# EAGLE library part MPU-6000 (library TiLDA Mk2 Parts)
MPU-6000 - I2C address is 0x68 with AD0 low and 0x69 with AD0 high.
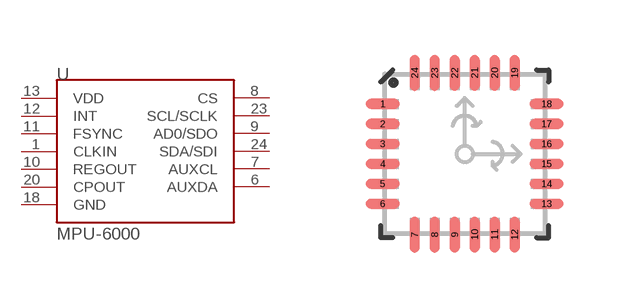
[diagram p4: symbol with the pads of QFN-24-NODIE; footprint QFN-24-NODIE]

Designator prefix U

## MPU-6000  [QFN-24-NODIE]
1  CLKIN
6  AUXDA
7  AUXCL
8  CS
9  AD0/SDO
10  REGOUT
11  FSYNC
12  INT
13  VDD
18  GND
20  CPOUT
23  SCL/SCLK
24  SDA/SDI

## Footprint QFN-24-NODIE (pad centres in mm)
smd 0.85 x 0.25: 1 -2.05,1.25; 2 -2.05,0.75; 3 -2.05,0.25; 4 -2.05,-0.25; 5 -2.05,-0.75; 6 -2.05,-1.25; 13 2.05,-1.25; 14 2.05,-0.75; 15 2.05,-0.25; 16 2.05,0.25; 17 2.05,0.75; 18 2.05,1.25
smd 0.25 x 0.9: 7 -1.25,-2.025; 8 -0.75,-2.025; 9 -0.25,-2.025; 10 0.25,-2.025; 11 0.75,-2.025; 12 1.25,-2.025; 19 1.25,2.025; 20 0.75,2.025; 21 0.25,2.025; 22 -0.25,2.025; 23 -0.75,2.025; 24 -1.25,2.025